# EAGLE library part DSPIC30F4011 (library rfc)
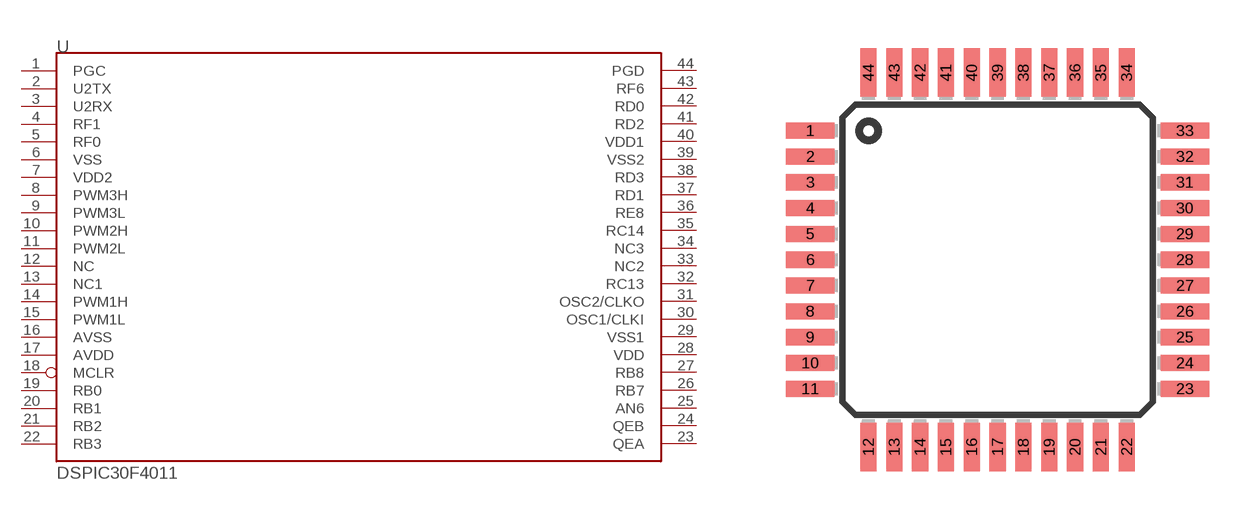
[diagram p6: symbol with the pads of TQFP44; footprint TQFP44]

Designator prefix -

## DSPIC30F4011  [TQFP44]
1  PGC
2  U2TX
3  U2RX
4  RF1
5  RF0
6  VSS  pwr
7  VDD2  sup
8  PWM3H
9  PWM3L
10  PWM2H
11  PWM2L
12  NC
13  NC1
14  PWM1H
15  PWM1L
16  AVSS  pwr
17  AVDD  pwr
18  MCLR  in
19  RB0
20  RB1
21  RB2
22  RB3
23  QEA
24  QEB
25  AN6
26  RB7
27  RB8
28  VDD  pwr
29  VSS1  pwr
30  OSC1/CLKI
31  OSC2/CLKO
32  RC13
33  NC2
34  NC3
35  RC14
36  RE8
37  RD1
38  RD3
39  VSS2  pwr
40  VDD1  pwr
41  RD2
42  RD0
43  RF6
44  PGD

## Footprint TQFP44 (pad centres in mm)
smd 1.5 x 0.5: 1 -5.8,4; 2 -5.8,3.2; 3 -5.8,2.4; 4 -5.8,1.6; 5 -5.8,0.8; 6 -5.8,0; 7 -5.8,-0.8; 8 -5.8,-1.6; 9 -5.8,-2.4; 10 -5.8,-3.2; 11 -5.8,-4; 23 5.8,-4; 24 5.8,-3.2; 25 5.8,-2.4; 26 5.8,-1.6; 27 5.8,-0.8; 28 5.8,0; 29 5.8,0.8; 30 5.8,1.6; 31 5.8,2.4; 32 5.8,3.2; 33 5.8,4
smd 0.5 x 1.5: 12 -4,-5.8; 13 -3.2,-5.8; 14 -2.4,-5.8; 15 -1.6,-5.8; 16 -0.8,-5.8; 17 0,-5.8; 18 0.8,-5.8; 19 1.6,-5.8; 20 2.4,-5.8; 21 3.2,-5.8; 22 4,-5.8; 34 4,5.8; 35 3.2,5.8; 36 2.4,5.8; 37 1.6,5.8; 38 0.8,5.8; 39 0,5.8; 40 -0.8,5.8; 41 -1.6,5.8; 42 -2.4,5.8; 43 -3.2,5.8; 44 -4,5.8